# Altium schematic symbol library NP-Capacitor.Schlib: 1 symbol
Pins are listed as number, name and electrical type; pins without a type are passive.

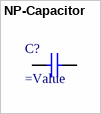
[diagram p0: symbol NP-Capacitor]

## NP-Capacitor
designator C?
Non polarized capacitor
pins: 1, 2